# Altium footprint library IMX6PCBlib.PcbLib: 75 footprints (part 1 of 5)
Each footprint in its own frame and in the unit in brackets; x right, y up, seen from the top. Pads: shape width x height; smd on the part's side, far side on the other; paste and mask are expansions set on the pad; w line width, h text height; cw(c..) or ccw(c..) is an arc to the next point about the centre after c.
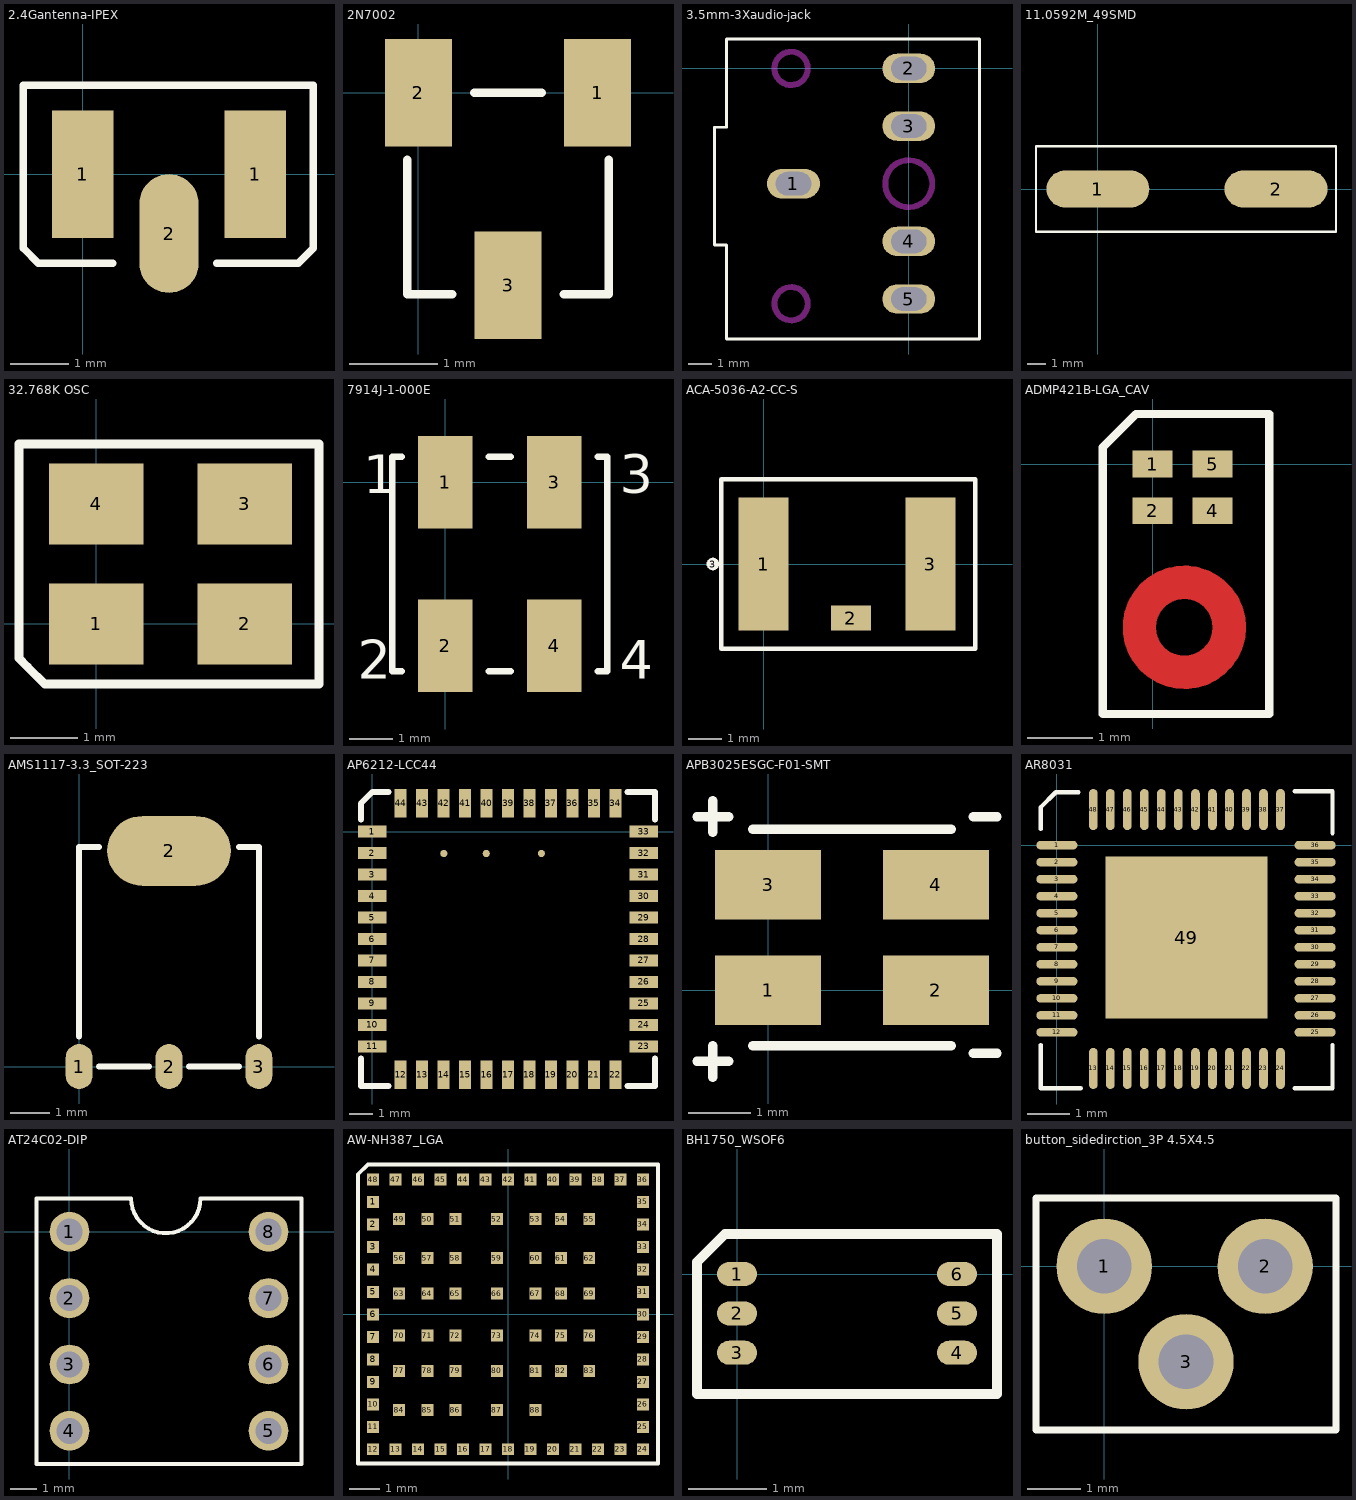
[diagram p0: the footprints below, top view; thin cyan lines are the x and y axes]

## 2.4Gantenna-IPEX [mil]
pads (3):
  rect 41.33x86 smd: 1(0,0) 1(116,0)
  oval 40x80 smd: 2(58,-40)
Top Overlay:
  lines w5: 20,-60 -30,-60 -40,-50 -40,50 -40,60 155,60 155,45 155,-50 145,-60 140,-60 90,-60

## 2N7002 [mil]
pads (3):
  rect 30x48 smd: 1(80,0) 2(0,0) 3(40,-86)
Top Overlay:
  lines w3.94: -5,-30 -5,-90 15,-90 ; 25,0 55,0 ; 65,-90 85,-90 85,-30

## 3.5mm-3Xaudio-jack [mil]
pads (5):
  oval 90x50 hole 40 slot 60 at 0 deg: 1(-196,-196) 2(0,0) 3(0,-98) 4(0,-294) 5(0,-392)
Top Overlay:
  lines w5: -300,50 -280,50 ; -330,-300 -310,-300 -310,-460 120,-460 120,50 -310,50 -310,-100 -330,-100 -330,-300
Keep-Out Layer:
  circle w10: c-200,-400 r28.28
  circle w10: c-200,0 r28.28
  circle w10: c0,-196 r40

## 11.0592M_49SMD [mil]
pads (2):
  oval 216x78 smd: 1(0,0) 2(374,0)
Top Overlay:
  lines w5: -130,-90 -130,90 500,90 500,-90 -130,-90

## 32.768K OSC [mil]
pads (4):
  rect 55.11x47.24 smd: 1(0,0) 2(86.6,0) 3(86.6,70) 4(0,70)
Top Overlay:
  lines w5: -45,-20 -40,-25 -30,-35 130,-35 130,105 -25,105 -45,105 -45,-20

## 7914J-1-000E [mil]
pads (4):
  rect 50x85 smd: 1(0,0) 2(0,-150) 3(100,0) 4(100,-150)
Top Overlay:
  lines w6: -40,-173.5 -48.5,-173.5 -48.5,23.5 -40,23.5 ; 40,-173.5 60,-173.5 ; 40,23.5 60,23.5 ; 140,-173.5 148.5,-173.5 148.5,23.5 140,23.5
  text "1" at -75,-10 h35
  text "2" at -80,-180 h35
  text "3" at 160,-10 h35
  text "4" at 160,-180 h35

## ACA-5036-A2-CC-S [mil]
pads (4):
  rect 59x157.4 smd: 1(0,0) 3(196.85,0)
  rect 47.24x29.52 smd: 2(103,-64)
  round 15 on Top Overlay: 3(-60,0)
Top Overlay:
  lines w5: -50,-100 250,-100 250,100 -50,100 -50,-100

## ADMP421B-LGA_CAV [mil]
pads (4):
  rect 24x16 smd: 1(0,0) 2(0,-28) 4(36,-28) 5(36,0)
Top Layer:
  circle w20: c19,-98 r27
Top Overlay:
  lines w5: -30,-150 -30,10 -10,30 70,30 70,-150 -30,-150

## AMS1117-3.3_SOT-223 [mil]
pads (4):
  oval 27x45 smd: 1(0,0) 2(90,0) 3(180,0)
  oval 124x70 smd: 2(90,216)
Top Overlay:
  lines w6: 0,30 0,220 20,220 ; 20,0 70,0 ; 110,0 160,0 ; 160,220 180,220 180,30

## AP6212-LCC44 [mil]
pads (47):
  rect 47.24x19.68 smd: 1(0,0) 2(0,-35.43) 3(0,-70.86) 4(0,-106.29) 5(0,-141.72) 6(0,-177.15) 7(0,-212.58) 8(0,-248.01) 9(0,-283.44) 10(0,-318.87) 11(0,-354.3) 23(447.8,-354.3) 24(447.8,-318.87) 25(447.8,-283.44) 26(447.8,-248.01) 27(447.8,-212.58) 28(447.8,-177.15) 29(447.8,-141.72) 30(447.8,-106.29) 31(447.8,-70.86) 32(447.8,-35.43) 33(447.8,0)
  rect 19.68x47.24 smd: 12(46.75,-401.05) 13(82.18,-401.05) 14(117.61,-401.05) 15(153.04,-401.05) 16(188.47,-401.05) 17(223.9,-401.05) 18(259.33,-401.05) 19(294.76,-401.05) 20(330.19,-401.05) 21(365.62,-401.05) 22(401.05,-401.05) 34(401.05,46.75) 35(365.62,46.75) 36(330.19,46.75) 37(294.76,46.75) 38(259.33,46.75) 39(223.9,46.75) 40(188.47,46.75) 41(153.04,46.75) 42(117.61,46.75) 43(82.18,46.75) 44(46.75,46.75)
  round 11.81 smd: 45(118,-36) 46(188,-36) 47(279,-36)
Top Overlay:
  lines w10: -18.62,-373.98 -18.62,-419.67 27.07,-419.67 ; -18.62,19.68 -18.62,46.75 0,65.37 27.07,65.37 ; 420.73,-419.67 466.42,-419.67 466.42,-373.98 ; 420.73,65.37 466.42,65.37 466.42,19.68

## APB3025ESGC-F01-SMT [mil]
pads (4):
  rect 67x44 smd: 1(0,0) 2(106.3,0) 3(0,66.92) 4(106.3,66.92)
Top Overlay:
  lines w6: -45,-45 -25,-45 ; -45,110 -25,110 ; -35,-55 -35,-35 ; -35,100 -35,110 -35,120 ; -9.84,-35.12 116.14,-35.12 ; -9.84,102.04 116.14,102.04 ; 130,-40 145,-40 ; 130,110 145,110

## AR8031 [mil]
pads (49):
  oval 38x8 smd: 1(0,0) 2(0,-15.74) 3(0,-31.48) 4(0,-47.22) 5(0,-62.96) 6(0,-78.7) 7(0,-94.44) 8(0,-110.18) 9(0,-125.92) 10(0,-141.66) 11(0,-157.4) 12(0,-173.14) 25(238.98,-173.14) 26(238.98,-157.4) 27(238.98,-141.66) 28(238.98,-125.92) 29(238.98,-110.18) 30(238.98,-94.44) 31(238.98,-78.7) 32(238.98,-62.96) 33(238.98,-47.22) 34(238.98,-31.48) 35(238.98,-15.74) 36(238.98,0)
  oval 8x38 smd: 13(33.78,-206.6) 14(49.52,-206.6) 15(65.26,-206.6) 16(81,-206.6) 17(96.74,-206.6) 18(112.48,-206.6) 19(128.22,-206.6) 20(143.96,-206.6) 21(159.7,-206.6) 22(175.44,-206.6) 23(191.18,-206.6) 24(206.92,-206.6) 37(206.92,32.98) 38(191.18,32.98) 39(175.44,32.98) 40(159.7,32.98) 41(143.96,32.98) 42(128.22,32.98) 43(112.48,32.98) 44(96.74,32.98) 45(81,32.98) 46(65.26,32.98) 47(49.52,32.98) 48(33.78,32.98)
  rect 150x150 smd: 49(119.8,-85.6)
Top Overlay:
  lines w3.94: -15,-185 -15,-225 22,-225 ; -15,15 -15,35 -1,49 20,49 ; 220,-225 255,-225 255,-185 ; 220,50 255,50 255,11

## AT24C02-DIP [mil]
pads (8):
  round 60 hole 39.37: 1(0,0) 2(0,-100) 3(0,-200) 4(0,-300) 5(300,-300) 6(300,-200) 7(300,-100) 8(300,0)
Top Overlay:
  lines w6: -50,-350 350,-350 350,50 197.4,50 cw(c145.2,50) 93,50 -50,50 -50,-350

## AW-NH387_LGA [mil]
pads (88):
  rect 15.74x15.74 smd: 1(-177.12,147.6) 2(-177.12,118.08) 3(-177.12,88.56) 4(-177.12,59.04) 5(-177.12,29.52) 6(-177.12,0) 7(-177.12,-29.52) 8(-177.12,-59.04) 9(-177.12,-88.56) 10(-177.12,-118.08) 11(-177.12,-147.6) 12(-177.12,-177.12) 13(-147.6,-177.12) 14(-118.08,-177.12) 15(-88.56,-177.12) 16(-59.04,-177.12) 17(-29.52,-177.12) 18(0,-177.12) 19(29.52,-177.12) 20(59.04,-177.12) 21(88.56,-177.12) 22(118.08,-177.12) 23(147.6,-177.12) 24(177.12,-177.12) 25(177.12,-147.6) 26(177.12,-118.08) 27(177.12,-88.56) 28(177.12,-59.04) 29(177.12,-29.52) 30(177.12,0) 31(177.12,29.52) 32(177.12,59.04) 33(177.12,88.56) 34(177.12,118.08) 35(177.12,147.6) 36(177.12,177.12) 37(147.6,177.12) 38(118.08,177.12) 39(88.56,177.12) 40(59.04,177.12) 41(29.52,177.12) 42(0,177.12) 43(-29.52,177.12) 44(-59.04,177.12) 45(-88.56,177.12) 46(-118.08,177.12) 47(-147.6,177.12) 48(-177.12,177.12) 49(-143.02,125.12) 50(-106,125.1) 51(-69,125.1) 52(-14.7,125.1) 53(35.8,125.1) 54(69.6,125.1) 55(106.7,125.1) 56(-143.02,73.9) 57(-106,73.9) 58(-69,73.9) 59(-14.7,73.9) 60(35.8,73.9) 61(69.6,73.9) 62(106.7,73.9) 63(-143.02,27.4) 64(-106,27.4) 65(-69,27.4) 66(-14.7,27.4) 67(35.8,27.4) 68(69.6,27.4) 69(106.7,27.4) 70(-143.02,-27.8) 71(-106,-27.8) 72(-69,-27.8) 73(-14.7,-27.8) 74(35.8,-27.8) 75(69.6,-27.8) 76(106.7,-27.8) 77(-143.02,-74.3) 78(-106,-74.3) 79(-69,-74.3) 80(-14.7,-74.3) 81(35.8,-74.3) 82(69.6,-74.3) 83(106.7,-74.3) 84(-143.02,-125.7) 85(-106,-125.7) 86(-69,-125.7) 87(-14.7,-125.7) 88(35.8,-125.7)
Top Overlay:
  lines w5: -197,-196 -195,-196 197,-196 197,197 -184,197 -197,184 -197,-196

## BH1750_WSOF6 [mil]
pads (6):
  oval 20x12 smd: 1(0,0) 2(0,-19.68) 3(0,-39.36) 4(110,-39.36) 5(110,-19.68) 6(110,0)
Top Overlay:
  lines w5: -20,-60 -20,6 -6,20 30,20 80,20 130,20 130,-60 -20,-60

## button_sidedirction_3P 4.5X4.5 [mil]
pads (3):
  round 70 hole 40: 1(0,0) 2(118,0) 3(60,-70)
Top Overlay:
  lines w5: -50,-120 -50,50 170,50 170,-120 -50,-120